# Altium schematic symbol library 220uF_Cap_UUR1C221MCL6GS.SchLib: 1 symbol
Pins are listed as number, name and electrical type; pins without a type are passive.

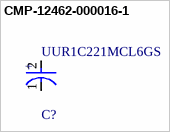
[diagram p0: symbol CMP-12462-000016-1]

## CMP-12462-000016-1
designator C?, comment UUR1C221MCL6GS
CAP ALUM 220UF 20% 16V SMD; Dissipation Factor: 0.2%; Leakage Current: 16.5uA; Life (Hours): 2000Hour; Ripple Current: 162mA; Termination: SMD/SMT; Min Operating Temperature: -40°C; Capacitance: 220uF; Radiation Hardening: No; Diameter: 6.3mm; Package Quantity: 900; Tolerance: 20%; Case/Package: Radial; Lead Free: Lead Free; Mount: Surface Mount; Length: 7.7mm; Packaging: Tape and Reel; Max Operating Temperature: 85°C; Features: General Purpose; Voltage Rating: 16V; Height - Seated (Max): 0.315inch; Voltage Rating (DC): 16V; Height: 7.7mm
footprint FP-UUR1C221MCL6GS-MFG
pins: 1 C, 2 A
text: +